# Altium schematic symbol library IND.SchLib: 1 symbol
Pins are listed as number, name and electrical type; pins without a type are passive.

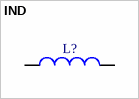
[diagram p0: symbol IND]

## IND
designator L?  (value not drawn)
pins: 1, 2